# Altium footprint library PocketLab_DMM_EVT0.PcbLib: 33 footprints (part 1 of 3)
Each footprint in its own frame and in the unit in brackets; x right, y up, seen from the top. Pads: shape width x height; smd on the part's side, far side on the other; paste and mask are expansions set on the pad; w line width, h text height; cw(c..) or ccw(c..) is an arc to the next point about the centre after c.
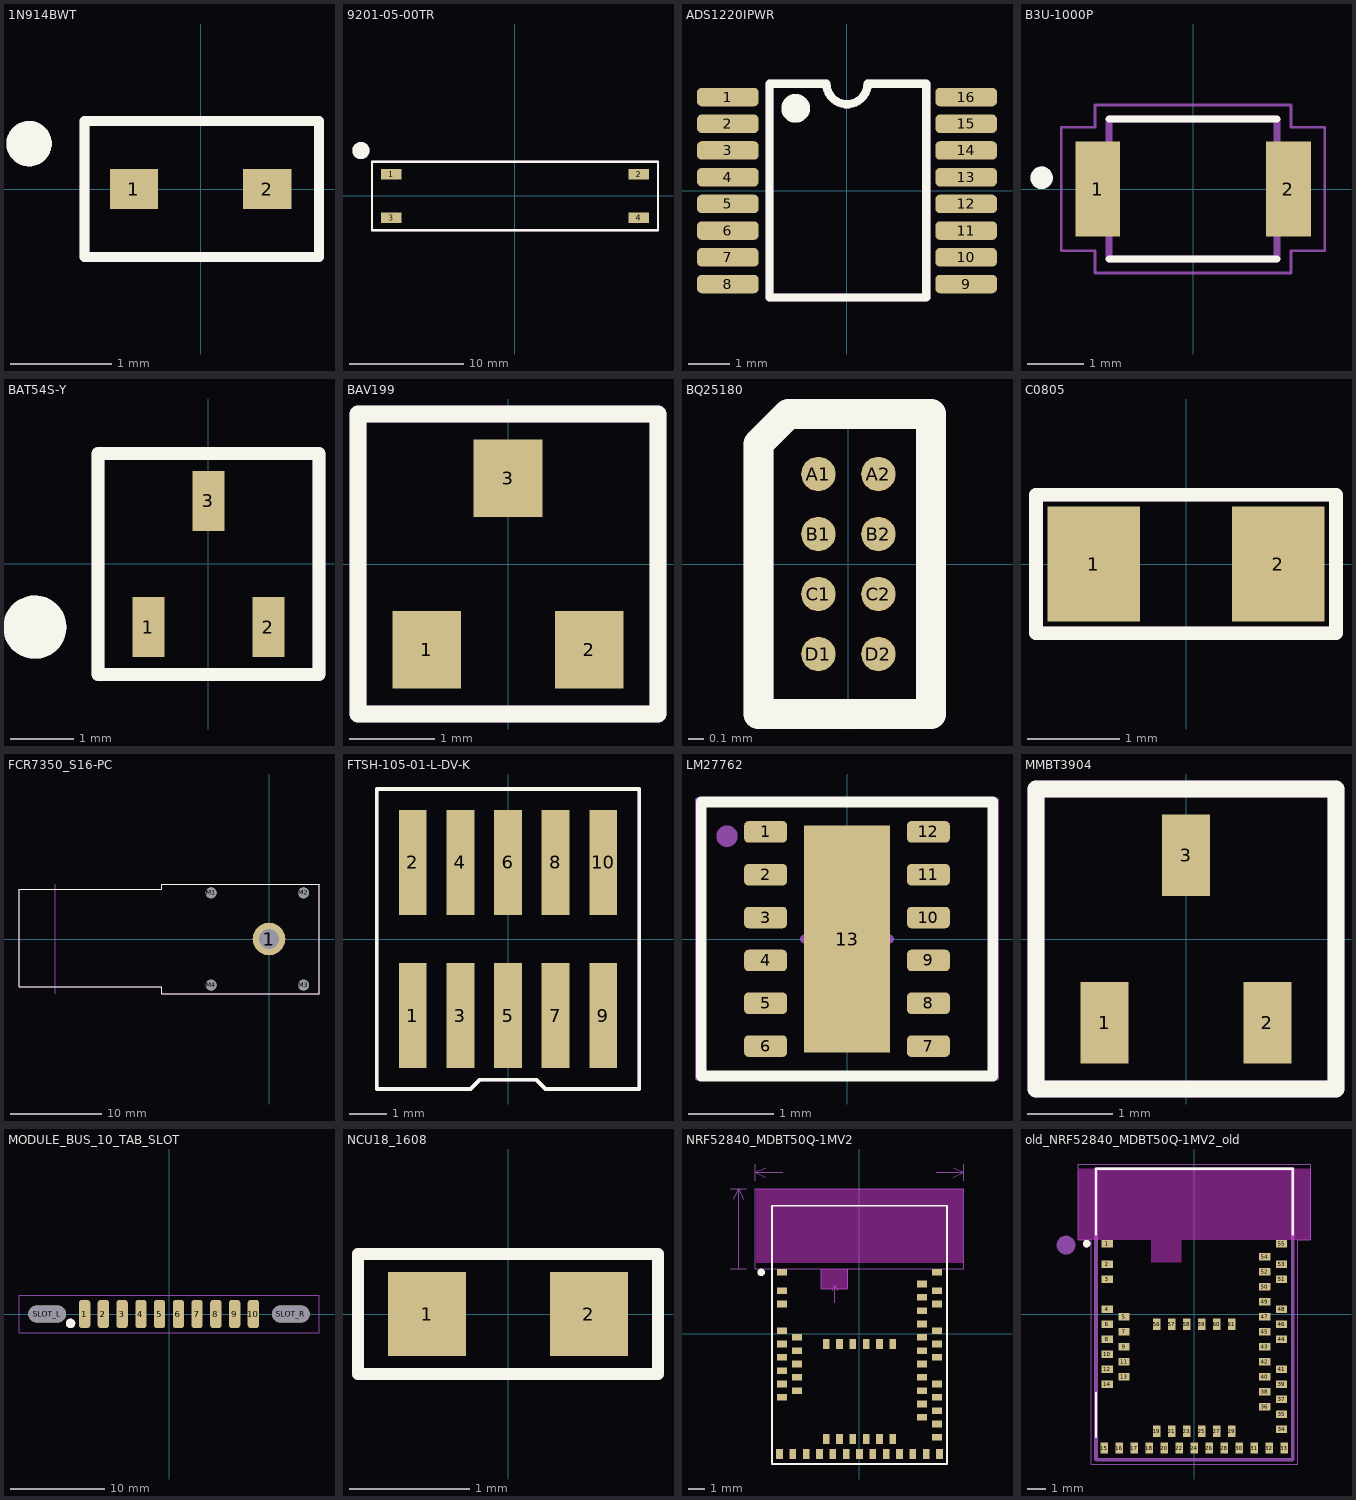
[diagram p0: the footprints below, top view; thin cyan lines are the x and y axes]

## 1N914BWT [mm]
height 0.7
pads (2):
  rect 0.48x0.4 smd: 1(-0.66,0) 2(0.66,0)
Top Overlay:
  circle w0.25: c-1.7,0.45 r0.1
  lines w0.1: -1.15,-0.675 -1.15,0.675 1.175,0.675 1.175,-0.675 -1.15,-0.675
Top Assembly:
  circle w0.25: c-1.7,0.45 r0.1
  lines w0.1: -1.15,-0.675 -1.15,0.675 1.175,0.675 1.175,-0.675 -1.15,-0.675
  text ".Designator" at -2.499,-0.167 h0.5
3D body "1N914BWT.STEP": height 0.71, standoff 0.01, extent -0.8,-0.425 0.8,0.375

## 9201-05-00TR [mm] "RELAY REED SPST 500MA 5V"
pads (4):
  rect 1.8x0.9 smd: 1(-10.8,1.9) 2(10.8,1.9) 3(-10.8,-1.9) 4(10.8,-1.9)
Top Overlay:
  circle w1: c-13.47,3.97 r0.25
  lines w0.2: -12.5,3 -12.5,3 ; -12.5,3 -12.5,-3 12.5,-3 12.5,3 -12.5,3
Top Assembly:
  circle w1: c-13.47,3.97 r0.25
  lines w0.2: -12.5,3 -12.5,3 ; -12.5,3 -12.5,-3 12.5,-3 12.5,3 -12.5,3
  text ".Designator" at -3.499,-0.233 h0.7

## ADS1220IPWR [mm]
height 1.2
pads (16):
  rrect50% 1.5x0.45 smd mask+0.05: 1(-2.9,2.275) 2(-2.9,1.625) 3(-2.9,0.975) 4(-2.9,0.325) 5(-2.9,-0.325) 6(-2.9,-0.975) 7(-2.9,-1.625) 8(-2.9,-2.275) 9(2.9,-2.275) 10(2.9,-1.625) 11(2.9,-0.975) 12(2.9,-0.325) 13(2.9,0.325) 14(2.9,0.975) 15(2.9,1.625) 16(2.9,2.275)
Top Overlay:
  circle w0.5: c-1.25,2 r0.1
  lines w0.2: -1.884,-2.6 1.926,-2.6 1.926,2.6 0.5,2.6 cw(c0,2.6) -0.5,2.6 -1.884,2.6 -1.884,-2.6
Top Assembly:
  circle w0.1: c-1.25,2 r0.25
  lines w0.2: -1.884,-2.6 1.926,-2.6 1.926,2.6 0.5,2.6 cw(c0,2.6) -0.5,2.6 -1.884,2.6 -1.884,-2.6
  text ".Designator" at 0.208,-3.499 h0.7
3D body "PW0016A.stp": height 1.13, standoff 0, extent -3.2,-2.5 3.2,2.5

## B3U-1000P [mm]
height 1.75
pads (2):
  rect 0.8x1.7 smd: 1(-1.7,0) 2(1.7,0)
Top Overlay:
  circle w0.2: c-2.7,0.2 r0.1
  lines w0.127: -1.5,-1.25 1.5,-1.25 ; -1.5,1.25 1.5,1.25
Top Assembly:
  lines w0.05: -2.35,-1.1 -1.75,-1.1 -1.75,-1.5 1.75,-1.5 1.75,-1.1 2.35,-1.1 2.35,1.1 1.75,1.1 1.75,1.5 -1.75,1.5 -1.75,1.1 -2.35,1.1 -2.35,-1.1
  text ".Designator" at -3.499,-0.233 h0.7
Mechanical 13:
  circle w0.2: c-2.7,0.2 r0.1
  lines w0.127: -1.5,-1.25 -1.5,1.25 1.5,1.25 1.5,-1.25 -1.5,-1.25
3D body "B3U-1000P.STEP": height 1.76, standoff 0.01, extent -2,-1.25 2,1.25

## BAT54S-Y [mm]
pads (3):
  rect 0.5x0.95 smd: 1(-0.95,-1) 2(0.95,-1) 3(0,1)
Top Overlay:
  circle w0.5: c-2.75,-1 r0.25
  circle w0.5: c-2.75,-1 r0.25
  lines w0.2: -1.75,-1.75 1.75,-1.75 ; -1.75,-1.75 -1.75,1.75 ; -1.75,-1.75 1.75,-1.75 ; -1.75,-1.75 -1.75,1.75 ; -1.75,-1.75 1.75,-1.75 ; -1.75,-1.75 -1.75,1.75 ; -1.75,-1.75 1.75,-1.75 ; -1.75,-1.75 -1.75,1.75 ; -1.75,-1.75 1.75,-1.75 ; -1.75,-1.75 -1.75,1.75 ; -1.75,-1.75 1.75,-1.75 ; -1.75,-1.75 -1.75,1.75 ; -1.75,1.75 1.75,1.75 ; -1.75,1.75 1.75,1.75 ; -1.75,1.75 1.75,1.75 ; -1.75,1.75 1.75,1.75 ; -1.75,1.75 1.75,1.75 ; -1.75,1.75 1.75,1.75 ; 1.75,-1.75 1.75,1.75 ; 1.75,-1.75 1.75,1.75 ; 1.75,-1.75 1.75,1.75 ; 1.75,-1.75 1.75,1.75 ; 1.75,-1.75 1.75,1.75 ; 1.75,-1.75 1.75,1.75
Top Assembly:
  circle w0.5: c-2.75,-1 r0.25
  lines w0.2: -1.75,-1.75 1.75,-1.75 ; -1.75,-1.75 -1.75,1.75 ; -1.75,-1.75 1.75,-1.75 ; -1.75,-1.75 -1.75,1.75 ; -1.75,-1.75 1.75,-1.75 ; -1.75,-1.75 -1.75,1.75 ; -1.75,-1.75 1.75,-1.75 ; -1.75,-1.75 -1.75,1.75 ; -1.75,-1.75 1.75,-1.75 ; -1.75,-1.75 -1.75,1.75 ; -1.75,-1.75 1.75,-1.75 ; -1.75,-1.75 -1.75,1.75 ; -1.75,1.75 1.75,1.75 ; -1.75,1.75 1.75,1.75 ; -1.75,1.75 1.75,1.75 ; -1.75,1.75 1.75,1.75 ; -1.75,1.75 1.75,1.75 ; -1.75,1.75 1.75,1.75 ; 1.75,-1.75 1.75,1.75 ; 1.75,-1.75 1.75,1.75 ; 1.75,-1.75 1.75,1.75 ; 1.75,-1.75 1.75,1.75 ; 1.75,-1.75 1.75,1.75 ; 1.75,-1.75 1.75,1.75
  text ".Designator" at -3.499,-0.233 h0.7
3D body "SOT-23_STM.step": height 1.4, standoff 0, extent -1.524,-1.372 1.524,1.372

## BAV199 [mm]
pads (3):
  rect 0.8x0.9 smd: 1(-0.95,-1) 2(0.95,-1) 3(0,1)
Top Overlay:
  lines w0.2: -1.75,-1.75 -1.75,1.75 ; -1.75,-1.75 1.75,-1.75 ; -1.75,-1.75 -1.75,1.75 ; -1.75,-1.75 1.75,-1.75 ; -1.75,-1.75 -1.75,1.75 ; -1.75,-1.75 1.75,-1.75 ; -1.75,1.75 1.75,1.75 ; -1.75,1.75 1.75,1.75 ; -1.75,1.75 1.75,1.75 ; 1.75,-1.75 1.75,1.75 ; 1.75,-1.75 1.75,1.75 ; 1.75,-1.75 1.75,1.75
Top Assembly:
  lines w0.2: -1.75,-1.75 -1.75,1.75 ; -1.75,-1.75 1.75,-1.75 ; -1.75,-1.75 -1.75,1.75 ; -1.75,-1.75 1.75,-1.75 ; -1.75,-1.75 -1.75,1.75 ; -1.75,-1.75 1.75,-1.75 ; -1.75,1.75 1.75,1.75 ; -1.75,1.75 1.75,1.75 ; -1.75,1.75 1.75,1.75 ; 1.75,-1.75 1.75,1.75 ; 1.75,-1.75 1.75,1.75 ; 1.75,-1.75 1.75,1.75
  text ".Designator" at -3.499,-0.233 h0.7
3D body "BAV199--3DModel-STEP-711646.STEP": height 1.2, standoff -0.1, extent -1.515,-1.3 1.525,1.3

## BQ25180 [mm]
pads (8):
  round 0.23 smd paste-2539.97 mask+0.025: A1(-0.2,0.6) A2(0.2,0.6) B1(-0.2,0.2) B2(0.2,0.2) C1(-0.2,-0.2) C2(0.2,-0.2) D1(-0.2,-0.6) D2(0.2,-0.6)
Top Overlay:
  lines w0.2: -0.6,-1 -0.6,0.8 -0.4,1 0.55,1 0.55,-1 -0.6,-1
Top Paste:
  drawing of 8 lines, arcs and shapes, not listed
Top Assembly:
  lines w0.2: -0.6,-1 -0.6,0.8 -0.4,1 0.55,1 0.55,-1 -0.6,-1
  text ".Designator" at -3.474,1.492 h0.7
3D body "BQ25180YBGR.STEP": height 0.5, standoff 0, extent -0.52,-0.795 0.52,0.795

## C0805 [mm]
height 1.4
pads (2):
  rect 1x1.25 smd: 1(-1,0) 2(1,0)
Top Overlay:
  lines w0.15: -1.625,-0.75 -1.625,0.75 1.625,0.75 1.625,-0.75 -1.625,-0.75
Top Assembly:
  lines w0.15: -1.625,-0.75 -1.625,0.75 1.625,0.75 1.625,-0.75 -1.625,-0.75
  text ".Designator" at -3.499,-0.233 h0.7
3D body "GRM21BR71C475KE51L.step": height 1.41, standoff 0.01, extent -1,-0.625 1,0.625

## FCR7350_S16-PC [mm] "Banana Jack Connector Standard Banana Solder"
height 12.3
pads (5):
  round 3.6 hole 2.2 paste-2539.97 mask+0.1: 1(0,0)
  round 1.2 hole 1.2 unplated paste-2539.97: M1(-6.36,5.08) M2(3.8,5.08) M3(3.8,-5.08) M4(-6.36,-5.08)
Top Overlay:
  lines w0.1: -11.8,-5.3 -11.8,-6 5.5,-6 5.5,6 -11.8,6 -11.8,5.55 -11.85,5.5 -27.5,5.5 -27.5,-5.25 -11.8,-5.25
Mechanical 1:
  lines w0.1: -23.5,-6 -23.5,6
  text "PCB EDGE" at -23,4.082 h1
Top Assembly:
  lines w0.1: -11.8,-5.3 -11.8,-6 5.5,-6 5.5,6 -11.8,6 -11.8,5.55 -11.85,5.5 -27.5,5.5 -27.5,-5.25 -27.25,-5.25 -11.8,-5.25
  text ".Designator" at -11.248,-0.583 h1
3D body "FCR7350R.STEP": height 11.51, standoff -3.39, extent -27.47,-6 5.53,6

## FTSH-105-01-L-DV-K [mm] "CONN HEADER SMD 10POS 1.27MM"
height 5.97
pads (10):
  rect 0.74x2.8 smd: 1(-2.54,-2.04) 2(-2.54,2.04) 3(-1.27,-2.04) 4(-1.27,2.04) 5(0,-2.04) 6(0,2.04) 7(1.27,-2.04) 8(1.27,2.04) 9(2.54,-2.04) 10(2.54,2.04)
Top Overlay:
  lines w0.1: -3.5,-4 -1,-4 -0.75,-3.75 0.75,-3.75 1,-4 3.5,-4 3.5,4 -3.5,4 -3.5,-4
Top Assembly:
  lines w0.1: -3.5,-4 -1,-4 -0.75,-3.75 0.75,-3.75 1,-4 3.5,-4 3.5,4 -3.5,4 -3.5,-4
  text ".Designator" at -3.499,-0.233 h0.7
3D body "FTSH-105-01-L-DV-K.stp": height 6.13, standoff 0.01, extent -3.175,-3.221 3.175,2.621

## LM27762 [mm] "IC REG CHARGE PUMP ADJ DL 12WSON"
height 0.8
pads (13):
  rrect40% 0.5x0.25 smd mask+0.05: 1(-0.95,1.25) 2(-0.95,0.75) 3(-0.95,0.25) 4(-0.95,-0.25) 5(-0.95,-0.75) 6(-0.95,-1.25) 7(0.95,-1.25) 8(0.95,-0.75) 9(0.95,-0.25) 10(0.95,0.25) 11(0.95,0.75) 12(0.95,1.25)
  rect 1x2.65 smd paste-2539.97 mask+0.05: 13(0,0)
Top Overlay:
  lines w0.127: -1.7,-1.6 -1.7,1.6 1.7,1.6 1.7,-1.6 -1.7,-1.6
Top Paste:
  rectangle: -0.475,-1.27 0.475,-0.1
  rectangle: -0.475,0.1 0.475,1.27
Top Assembly:
  circle w0.125: c-1.4,1.2 r0.062
  lines w0.1: -1.7,-1.6 1.7,-1.6 1.7,1.6 -1.7,1.6 -1.7,-1.6
  text ".Designator" at -3.499,-0.233 h0.7
Top Courtyard:
  lines w0.05: -1.75,-1.625 1.75,-1.625 1.75,1.625 -1.75,1.625 -1.75,-1.625
Top Component Center:
  lines w0.1: -0.5,0 0.5,0 ; 0,-0.5 0,0.5
3D body "DSS0012B.stp": height 0.8, standoff 0, extent -1,-1.5 1,1.5

## MMBT3904 [mm]
height 1.2
pads (3):
  rect 0.56x0.95 smd mask+0.05: 1(-0.95,-0.975) 2(0.95,-0.975) 3(0,0.975)
Top Overlay:
  lines w0.2: -1.75,-1.75 -1.75,1.75 1.75,1.75 1.75,-1.75 -1.75,-1.75
Top Assembly:
  lines w0.2: -1.75,-1.75 -1.75,1.75 1.75,1.75 1.75,-1.75 -1.75,-1.75
  text ".Designator" at -3.499,-0.233 h0.7
3D body "MMBT3904LT1G.step": height 1.12, standoff -0.19, extent -1.45,-1.196 1.45,1.292

## MODULE_BUS_10_TAB_SLOT [mm] "10-pin stackable module interface for power, I2C, SPI, and shared interrupt"
pads (12):
  rrect50% 1.2x3 smd paste-2539.97 mask+0.1: 1(-9,0) 2(-7,0) 3(-5,0) 4(-3,0) 5(-1,0) 6(1,0) 7(3,0) 8(5,0) 9(7,0) 10(9,0)
  oval 4x1.8 hole 1.8 slot 4 at 0 deg unplated paste-2539.97: SLOT_L(-13,0) SLOT_R(13,0)
Top Overlay:
  circle w0.5: c-10.5,-1 r0.25
Top Assembly:
  circle w0.5: c-10.5,-1 r0.25
  lines w0.1: -16,-2 -16,2 16,2 16,-2 -16,-2
  text ".Designator" at -4.998,-0.333 h1

## NCU18_1608 [mm]
height 0.95
pads (2):
  rect 0.65x0.7 smd: 1(-0.675,0) 2(0.675,0)
Top Overlay:
  lines w0.1: -1.25,-0.5 -1,-0.5 1.25,-0.5 1.25,0.5 -1.25,0.5 -1.25,-0.5
Top Assembly:
  lines w0.1: -1.25,-0.5 -1,-0.5 1.25,-0.5 1.25,0.5 -1.25,0.5 -1.25,-0.5
  text ".Designator" at -3.499,-0.233 h0.7
3D body "TRES_NCU18XH103F6SRB_MUR.step": height 0.94, standoff 0, extent -0.876,-0.47 0.876,0.47

## NRF52840_MDBT50Q-1MV2 [mm]
height 2.05
pads (61):
  rect 0.6x0.4 smd mask+0.05: 1(-4.65,3.7) 2(-4.65,2.6) 3(-4.65,1.8) 4(-4.65,0.2) 5(-3.75,-0.2) 6(-4.65,-0.6) 7(-3.75,-1) 8(-4.65,-1.4) 9(-3.75,-1.8) 10(-4.65,-2.2) 11(-3.75,-2.6) 12(-4.65,-3) 13(-3.75,-3.4) 14(-4.65,-3.8) 34(4.65,-6.2) 35(4.65,-5.4) 36(3.75,-5) 37(4.65,-4.6) 38(3.75,-4.2) 39(4.65,-3.8) 40(3.75,-3.4) 41(4.65,-3) 42(3.75,-2.6) 43(3.75,-1.8) 44(4.65,-1.4) 45(3.75,-1) 46(4.65,-0.6) 47(3.75,-0.2) 48(4.65,0.2) 49(3.75,0.6) 50(3.75,1.4) 51(4.65,1.8) 52(3.75,2.2) 53(4.65,2.6) 54(3.75,3) 55(4.65,3.7)
  rect 0.4x0.6 smd mask+0.05: 15(-4.8,-7.2) 16(-4,-7.2) 17(-3.2,-7.2) 18(-2.4,-7.2) 19(-2,-6.3) 20(-1.6,-7.2) 21(-1.2,-6.3) 22(-0.8,-7.2) 23(-0.4,-6.3) 24(0,-7.2) 25(0.4,-6.3) 26(0.8,-7.2) 27(1.2,-6.3) 28(1.6,-7.2) 29(2,-6.3) 30(2.4,-7.2) 31(3.2,-7.2) 32(4,-7.2) 33(4.8,-7.2) 56(-2,-0.6) 57(-1.2,-0.6) 58(-0.4,-0.6) 59(0.4,-0.6) 60(1.2,-0.6) 61(2,-0.6)
Top Overlay:
  circle w0.25: c-5.9,3.7 r0.1
  lines w0.1: -5.25,-7.8 5.25,-7.8 5.25,7.7 0,7.7 -5.25,7.7 -5.25,-7.8
Keep-Out Layer:
  rectangle: -2.3,2.7 -0.7,3.9
  rectangle: -6.2,4.25 6.2,8.7
Top Assembly:
  lines w0.05: -7.75,3.9 -6.75,3.9 ; -7.75,8.7 -6.75,8.7 ; -7.53,8.09 -7.25,8.7 ; -7.25,3.9 -7.25,8.7 ; -6.97,8.09 -7.25,8.7 ; -6.25,9.2 -6.25,10.2 ; -5.64,9.42 -6.25,9.7 ; -5.64,9.98 -6.25,9.7 ; -4.6,9.7 -6.25,9.7 ; 4.6,9.7 6.25,9.7 ; 5.64,9.42 6.25,9.7 ; 5.64,9.98 6.25,9.7 ; 6.25,9.2 6.25,10.2 ; -6.25,3.9 -6.25,8.7 6.25,8.7 6.25,3.9 -6.25,3.9
  text "as wide as possible" at -4.075,9.55 h0.45
  text "as wide as possible" at -8.128,1.604 h0.45
  text "No ground pad" at -2.801,5.925 h0.45
Bottom Assembly:
  lines w0.05: -1.65,2.602 -1.5,2.902 ; -1.5,1.877 -1.5,2.902 ; -1.35,2.602 -1.5,2.902 ; -2.3,2.7 -2.3,3.9 -0.7,3.9 -0.7,2.7 -2.3,2.7
  text "Toplayer no ground pad" at -3.4,1.475 h0.3
3D body "MDBT50Q-1MV2--3DModel-STEP-126161.STEP": height 2.07, standoff 0.01, extent -5.25,-7.85 5.25,7.65

## old_NRF52840_MDBT50Q-1MV2_old [mm]
pads (61):
  rect 0.6x0.4 smd: 1(-4.65,3.75) 2(-4.65,2.65) 3(-4.65,1.85) 4(-4.65,0.25) 5(-3.75,-0.15) 6(-4.65,-0.55) 7(-3.75,-0.95) 8(-4.65,-1.35) 9(-3.75,-1.75) 10(-4.65,-2.15) 11(-3.75,-2.55) 12(-4.65,-2.95) 13(-3.75,-3.35) 14(-4.65,-3.75) 34(4.65,-6.15) 35(4.65,-5.35) 36(3.75,-4.95) 37(4.65,-4.55) 38(3.75,-4.15) 39(4.65,-3.75) 40(3.75,-3.35) 41(4.65,-2.95) 42(3.75,-2.55) 43(3.75,-1.75) 44(4.65,-1.35) 45(3.75,-0.95) 46(4.65,-0.55) 47(3.75,-0.15) 48(4.65,0.25) 49(3.75,0.65) 50(3.75,1.45) 51(4.65,1.85) 52(3.75,2.25) 53(4.65,2.65) 54(3.75,3.05) 55(4.65,3.75)
  rect 0.4x0.6 smd: 15(-4.8,-7.15) 16(-4,-7.15) 17(-3.2,-7.15) 18(-2.4,-7.15) 19(-2,-6.25) 20(-1.6,-7.15) 21(-1.2,-6.25) 22(-0.8,-7.15) 23(-0.4,-6.25) 24(0,-7.15) 25(0.4,-6.25) 26(0.8,-7.15) 27(1.2,-6.25) 28(1.6,-7.15) 29(2,-6.25) 30(2.4,-7.15) 31(3.2,-7.15) 32(4,-7.15) 33(4.8,-7.15) 56(-2,-0.55) 57(-1.2,-0.55) 58(-0.4,-0.55) 59(0.4,-0.55) 60(1.2,-0.55) 61(2,-0.55)
Top Overlay:
  circle w0.2: c-5.75,3.75 r0.1
  lines w0.127: -5.25,-6.55 -5.25,-4.2 ; -5.25,4.25 -5.25,7.75 5.25,7.75 5.25,4.25
Keep-Out Layer:
  region: -0.7,2.75 -2.3,2.75 -2.3,3.95 -0.7,3.95
  region: 6.2,3.95 -6.2,3.95 -6.2,7.75 6.2,7.75
  region: -0.7,2.75 -2.3,2.75 -2.3,3.95 -0.7,3.95
  region: 6.2,3.95 -6.2,3.95 -6.2,7.75 6.2,7.75
Top Assembly:
  circle w0.5: c-6.85,3.675 r0.25
  lines w0.127: -5.25,-6.55 -5.25,-4.2 ; -5.25,4.25 -5.25,7.75 5.25,7.75 5.25,4.25
  lines w0.2: -5.25,-7.75 -5.25,7.75 5.25,7.75 5.25,-7.725 5.2,-7.775 -5.225,-7.775 -5.25,-7.75
  text ".Designator" at -3.549,-0.158 h0.7
Mechanical 13:
  circle w0.2: c-5.75,3.75 r0.1
  lines w0.127: -5.25,-7.75 5.25,-7.75 5.25,7.75 -5.25,7.75 -5.25,-7.75
Mechanical 15:
  lines w0.05: -6.2,3.95 -5.5,3.95 -5.5,-8 5.5,-8 5.5,3.95 6.2,3.95 6.2,8 -6.2,8 -6.2,3.95
3D body "step_temp.STEP": height 2.07, standoff 0.01, extent -5.25,-7.775 5.25,7.725